# Altium schematic symbol library HT7333.SchLib: 1 symbol
Pins are listed as number, name and electrical type; pins without a type are passive.

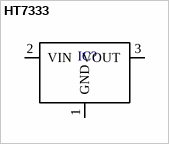
[diagram p0: symbol HT7333]

## HT7333
designator IC?
Micropower Voltage  Regulator
pins: 1 GND, 2 VIN, 3 VOUT